# EAGLE library part TL431 (library SquantorIC)
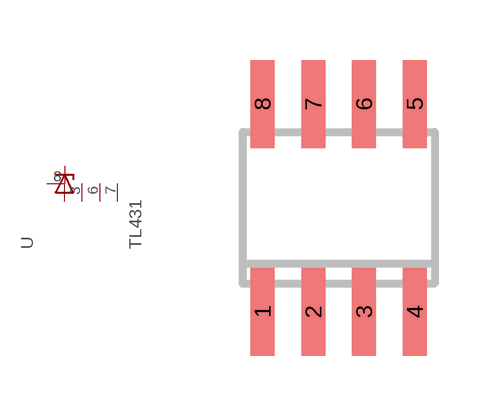
[diagram p4: symbol with the pads of SO-08; footprint SO-08]

Designator prefix -

## TL431  [SO-08]
1  C  pas
2  A  pas
3  A2  pas
6  A3  pas
7  A4  pas
8  REF  pas

## Footprint SO-08 (pad centres in mm)
D (R-PDSO-G8) Plastic Small Outline Package Source: http://focus.ti.com/lit/ds/symlink/sn65als176.pdf
smd 0.6 x 2.2: 1 -1.905,-2.6; 2 -0.635,-2.6; 3 0.635,-2.6; 4 1.905,-2.6; 5 1.905,2.6; 6 0.635,2.6; 7 -0.635,2.6; 8 -1.905,2.6